# EAGLE library part CONFIGURATION_BRD (library CYCFI_Module_castellated)
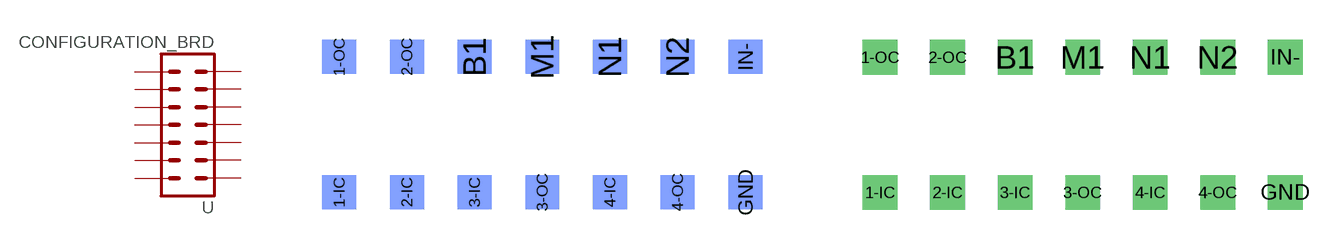
[diagram p1: symbol with the pads of CONFIGURATION_BRD; footprints CONFIGURATION_BRD, CONFIGURATION_BRD_MOD]

Designator prefix -

## CONFIGURATION_BRD  [CONFIGURATION_BRD]
1-IC  1-IC  pas
1-OC  1-OC  pas
2-IC  2-IC  pas
2-OC  2-OC  pas
3-IC  3-IC  pas
3-OC  3-OC  pas
4-IC  4-IC  pas
4-OC  4-OC  pas
B1  B  pas
GND  GND  pas
IN-  IN-  pas
M1  M  pas
N1  N  pas
N2  N2  pas

## CONFIGURATION_BRD_  [CONFIGURATION_BRD_MOD]
Pads as for CONFIGURATION_BRD

## Footprint CONFIGURATION_BRD (pad centres in mm)
smd 1.27 x 1.27 bottom: 1-IC -7.62,-2.54; 1-OC -7.62,2.54; 2-IC -5.08,-2.54; 2-OC -5.08,2.54; 3-IC -2.54,-2.54; 3-OC 0,-2.54; 4-IC 2.54,-2.54; 4-OC 5.08,-2.54; B1 -2.54,2.54; GND 7.62,-2.54; IN- 7.62,2.54; M1 0,2.54; N1 2.54,2.54; N2 5.08,2.54

## Footprint CONFIGURATION_BRD_MOD (pad centres in mm)
drill 0.8 square: 1-IC -7.62,-2.54; 1-OC -7.62,2.54; 2-IC -5.08,-2.54; 2-OC -5.08,2.54; 3-IC -2.54,-2.54; 3-OC 0,-2.54; 4-IC 2.54,-2.54; 4-OC 5.08,-2.54; B1 -2.54,2.54; GND 7.62,-2.54; IN- 7.62,2.54; M1 0,2.54; N1 2.54,2.54; N2 5.08,2.54